# Altium integrated library Res-SMD_V2.IntLib: 2369 symbols (part 15 of 18)
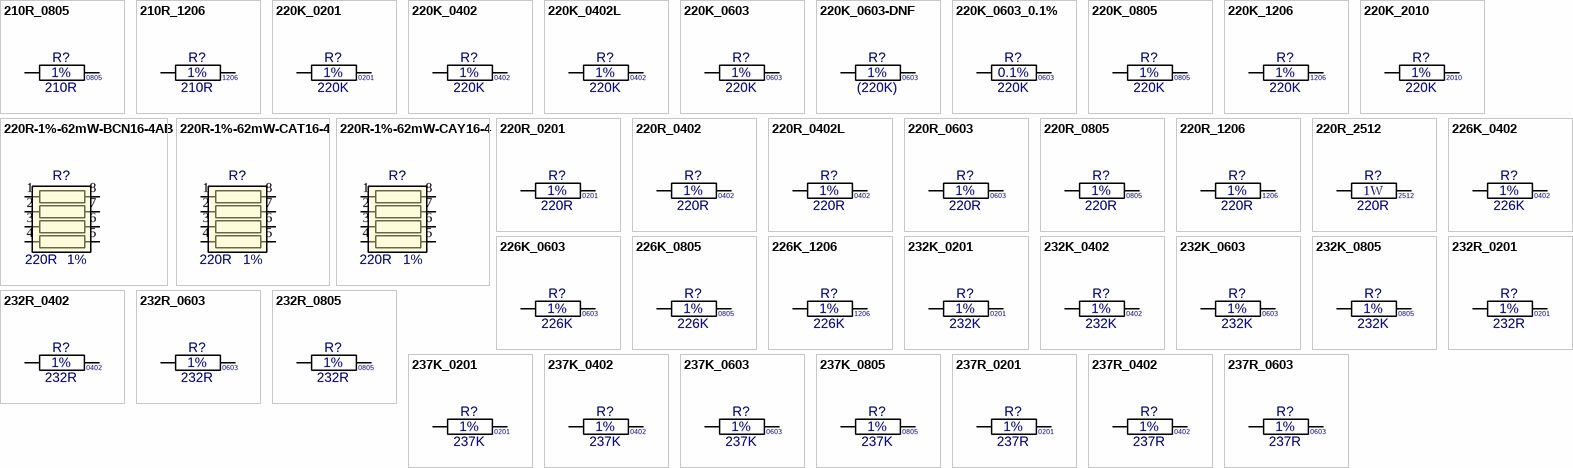
[diagram p73: symbols 210R_0805 to 237R_0603]

## 237K_0201
designator R?, comment value 237K  Tol: 1%  Text1: 0201  (hidden comment: 237K_R0201_1%)
Resistor Chip SMD; Manufacturer: Various; Part Number: 237K 0201 1%; Watt: 31mW; Package: RESC0201X33N; EDM-PN: *; Text2: *; Reutech PN: *; SAAB PN: *; DCE Part No: *
footprint RESC0201X33N (Chip Resistor, 0201, 2-Leads, Body 0.6x0.3mm, IPC Medium Density)
pins: 1, 2

## 237K_0402
designator R?, comment value 237K  Tol: 1%  Text1: 0402  (hidden comment: 237K_R0402_1%)
Resistor Chip SMD; Manufacturer: Various; Part Number: 237K 0402 1%; Watt: 63mW; Package: RESC0402X40N; EDM-PN: *; Text2: *; Reutech PN: *; SAAB PN: *; DCE Part No: *
footprint RESC0402X40N (Chip Resistor, 0402, 2-Leads, Body 1.1x0.5mm, IPC Medium Density)
pins: 1, 2

## 237K_0603
designator R?, comment value 237K  Tol: 1%  Text1: 0603  (hidden comment: 237K_R0603_1%)
Resistor Chip SMD; Manufacturer: Various; Part Number: 237K 0603 1%; Watt: 100mW; Package: RESC0603X60N; EDM-PN: *; Text2: *; Reutech PN: *; SAAB PN: *; DCE Part No: *
footprint RESC0603X60N (Chip Resistor, 0603, 2-Leads, Body 1.6x0.8mm, IPC Medium Density)
pins: 1, 2

## 237K_0805
designator R?, comment value 237K  Tol: 1%  Text1: 0805  (hidden comment: 237K_R0805_1%)
Resistor Chip SMD; Manufacturer: Various; Part Number: 237K 0805 1%; Watt: 125mW; Package: RESC0805X65N; EDM-PN: *; Text2: *; Reutech PN: *; SAAB PN: *; DCE Part No: *
footprint RESC0805X65N (Chip Resistor, 0805, 2-Leads, Body 2.0x1.3mm, IPC Medium Density)
pins: 1, 2

## 237R_0201
designator R?, comment value 237R  Tol: 1%  Text1: 0201  (hidden comment: 237R_R0201_1%)
Resistor Chip SMD; Manufacturer: Various; Part Number: 237R 0201 1%; Watt: 31mW; Package: RESC0201X33N; EDM-PN: *; Text2: *; Reutech PN: *; SAAB PN: *; DCE Part No: *
footprint RESC0201X33N (Chip Resistor, 0201, 2-Leads, Body 0.6x0.3mm, IPC Medium Density)
pins: 1, 2

## 237R_0402
designator R?, comment value 237R  Tol: 1%  Text1: 0402  (hidden comment: 237R_R0402_1%)
Resistor Chip SMD; Manufacturer: Various; Part Number: 237R 0402 1%; Watt: 63mW; Package: RESC0402X40N; EDM-PN: *; Text2: *; Reutech PN: *; SAAB PN: *; DCE Part No: *
footprint RESC0402X40N (Chip Resistor, 0402, 2-Leads, Body 1.1x0.5mm, IPC Medium Density)
pins: 1, 2

## 237R_0603
designator R?, comment value 237R  Tol: 1%  Text1: 0603  (hidden comment: 237R_R0603_1%)
Resistor Chip SMD; Manufacturer: Various; Part Number: 237R 0603 1%; Watt: 100mW; Package: RESC0603X60N; EDM-PN: *; Text2: *; Reutech PN: *; SAAB PN: *; DCE Part No: *
footprint RESC0603X60N (Chip Resistor, 0603, 2-Leads, Body 1.6x0.8mm, IPC Medium Density)
pins: 1, 2

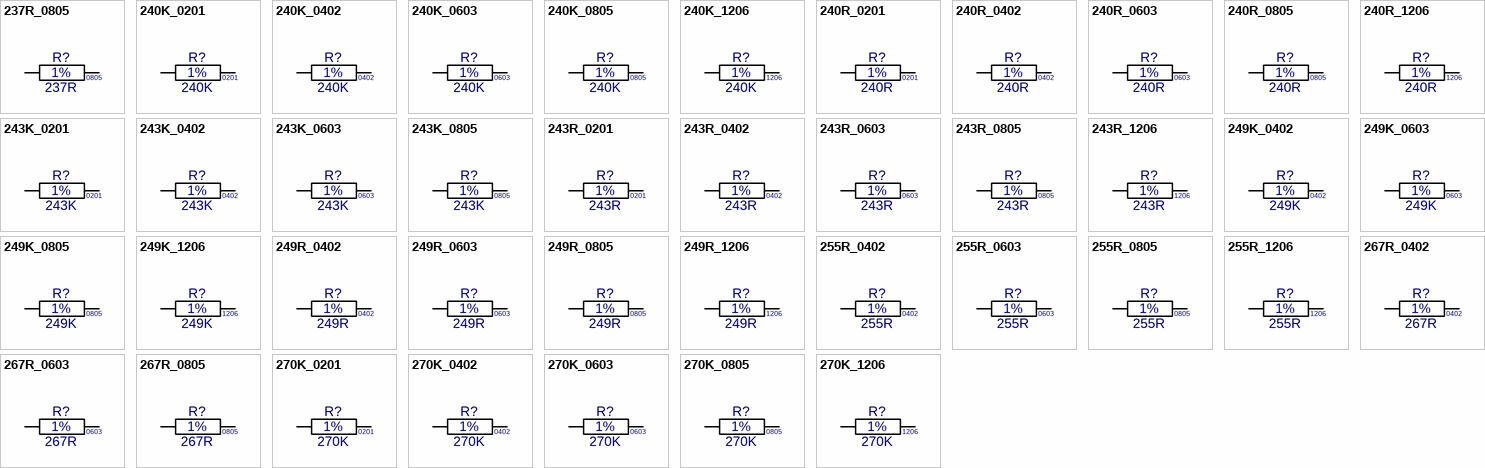
[diagram p47: symbols 237R_0805 to 270K_1206]

## 237R_0805
designator R?, comment value 237R  Tol: 1%  Text1: 0805  (hidden comment: 237R_R0805_1%)
Resistor Chip SMD; Manufacturer: Various; Part Number: 237R 0805 1%; Watt: 125mW; Package: RESC0805X65N; EDM-PN: *; Text2: *; Reutech PN: *; SAAB PN: *; DCE Part No: *
footprint RESC0805X65N (Chip Resistor, 0805, 2-Leads, Body 2.0x1.3mm, IPC Medium Density)
pins: 1, 2

## 240K_0201
designator R?, comment value 240K  Tol: 1%  Text1: 0201  (hidden comment: 240K_R0201_1%)
Resistor Chip SMD; Manufacturer: Various; Part Number: 240K 0201 1%; Watt: 31mW; Package: RESC0201X33N; EDM-PN: *; Text2: *; Reutech PN: *; SAAB PN: *; DCE Part No: *
footprint RESC0201X33N (Chip Resistor, 0201, 2-Leads, Body 0.6x0.3mm, IPC Medium Density)
pins: 1, 2

## 240K_0402
designator R?, comment value 240K  Tol: 1%  Text1: 0402  (hidden comment: 240K_R0402_1%)
Resistor Chip SMD; Manufacturer: Various; Part Number: 240K 0402 1%; Watt: 63mW; Package: RESC0402X40N; EDM-PN: *; Text2: *; Reutech PN: *; SAAB PN: *; DCE Part No: *
footprint RESC0402X40N (Chip Resistor, 0402, 2-Leads, Body 1.1x0.5mm, IPC Medium Density)
pins: 1, 2

## 240K_0603
designator R?, comment value 240K  Tol: 1%  Text1: 0603  (hidden comment: 240K_R0603_1%)
Resistor Chip SMD; Manufacturer: Various; Part Number: 240K 0603 1%; Watt: 100mW; Package: RESC0603X60N; EDM-PN: *; Text2: *; Reutech PN: *; SAAB PN: *; DCE Part No: *
footprint RESC0603X60N (Chip Resistor, 0603, 2-Leads, Body 1.6x0.8mm, IPC Medium Density)
pins: 1, 2

## 240K_0805
designator R?, comment value 240K  Tol: 1%  Text1: 0805  (hidden comment: 240K_R0805_1%)
Resistor Chip SMD; Manufacturer: Various; Part Number: 240K 0805 1%; Watt: 125mW; Package: RESC0805X65N; EDM-PN: *; Text2: *; Reutech PN: *; SAAB PN: *; DCE Part No: *
footprint RESC0805X65N (Chip Resistor, 0805, 2-Leads, Body 2.0x1.3mm, IPC Medium Density)
pins: 1, 2

## 240K_1206
designator R?, comment value 240K  Tol: 1%  Text1: 1206  (hidden comment: 240K_R1206_1%)
Resistor Chip SMD; Manufacturer: Various; Part Number: 240K 1206 1%; Watt: 250mW; Package: RESC1206X71N; EDM-PN: *; Text2: *; Reutech PN: *; SAAB PN: *; DCE Part No: *
footprint RESC1206X71N (Chip Resistor, 1206, 2-Leads, Body 3.2x1.6mm, IPC Medium Density)
pins: 1, 2

## 240R_0201
designator R?, comment value 240R  Tol: 1%  Text1: 0201  (hidden comment: 240R_R0201_1%)
Resistor Chip SMD; Manufacturer: Various; Part Number: 240R 0201 1%; Watt: 31mW; Package: RESC0201X33N; EDM-PN: *; Text2: *; Reutech PN: *; SAAB PN: *; DCE Part No: *
footprint RESC0201X33N (Chip Resistor, 0201, 2-Leads, Body 0.6x0.3mm, IPC Medium Density)
pins: 1, 2

## 240R_0402
designator R?, comment value 240R  Tol: 1%  Text1: 0402  (hidden comment: 240R_R0402_1%)
Resistor Chip SMD; Manufacturer: Various; Part Number: 240R 0402 1%; Watt: 63mW; Package: RESC0402X40N; EDM-PN: *; Text2: *; Reutech PN: *; SAAB PN: *; DCE Part No: *
footprint RESC0402X40N (Chip Resistor, 0402, 2-Leads, Body 1.1x0.5mm, IPC Medium Density)
pins: 1, 2

## 240R_0603
designator R?, comment value 240R  Tol: 1%  Text1: 0603  (hidden comment: 240R_R0603_1%)
Resistor Chip SMD; Manufacturer: Various; Part Number: 240R 0603 1%; Watt: 100mW; Package: RESC0603X60N; EDM-PN: *; Text2: *; Reutech PN: 5905-93-2400; SAAB PN: *; DCE Part No: *
footprint RESC0603X60N (Chip Resistor, 0603, 2-Leads, Body 1.6x0.8mm, IPC Medium Density)
pins: 1, 2

## 240R_0805
designator R?, comment value 240R  Tol: 1%  Text1: 0805  (hidden comment: 240R_R0805_1%)
Resistor Chip SMD; Manufacturer: Various; Part Number: 240R 0805 1%; Watt: 125mW; Package: RESC0805X65N; EDM-PN: *; Text2: *; Reutech PN: *; SAAB PN: *; DCE Part No: *
footprint RESC0805X65N (Chip Resistor, 0805, 2-Leads, Body 2.0x1.3mm, IPC Medium Density)
pins: 1, 2

## 240R_1206
designator R?, comment value 240R  Tol: 1%  Text1: 1206  (hidden comment: 240R_R1206_1%)
Resistor Chip SMD; Manufacturer: Various; Part Number: 240R 1206 1%; Watt: 250mW; Package: RESC1206X71N; EDM-PN: *; Text2: *; Reutech PN: 5905-97-2400; SAAB PN: *; DCE Part No: *
footprint RESC1206X71N (Chip Resistor, 1206, 2-Leads, Body 3.2x1.6mm, IPC Medium Density)
pins: 1, 2

## 243K_0201
designator R?, comment value 243K  Tol: 1%  Text1: 0201  (hidden comment: 243K_R0201_1%)
Resistor Chip SMD; Manufacturer: Various; Part Number: 243K 0201 1%; Watt: 31mW; Package: RESC0201X33N; EDM-PN: *; Text2: *; Reutech PN: *; SAAB PN: *; DCE Part No: *
footprint RESC0201X33N (Chip Resistor, 0201, 2-Leads, Body 0.6x0.3mm, IPC Medium Density)
pins: 1, 2

## 243K_0402
designator R?, comment value 243K  Tol: 1%  Text1: 0402  (hidden comment: 243K_R0402_1%)
Resistor Chip SMD; Manufacturer: Various; Part Number: 243K 0402 1%; Watt: 63mW; Package: RESC0402X40N; EDM-PN: *; Text2: *; Reutech PN: *; SAAB PN: *; DCE Part No: *
footprint RESC0402X40N (Chip Resistor, 0402, 2-Leads, Body 1.1x0.5mm, IPC Medium Density)
pins: 1, 2

## 243K_0603
designator R?, comment value 243K  Tol: 1%  Text1: 0603  (hidden comment: 243K_R0603_1%)
Resistor Chip SMD; Manufacturer: Various; Part Number: 243K 0603 1%; Watt: 100mW; Package: RESC0603X60N; EDM-PN: *; Text2: *; Reutech PN: *; SAAB PN: *; DCE Part No: *
footprint RESC0603X60N (Chip Resistor, 0603, 2-Leads, Body 1.6x0.8mm, IPC Medium Density)
pins: 1, 2

## 243K_0805
designator R?, comment value 243K  Tol: 1%  Text1: 0805  (hidden comment: 243K_R0805_1%)
Resistor Chip SMD; Manufacturer: Various; Part Number: 243K 0805 1%; Watt: 125mW; Package: RESC0805X65N; EDM-PN: *; Text2: *; Reutech PN: *; SAAB PN: *; DCE Part No: *
footprint RESC0805X65N (Chip Resistor, 0805, 2-Leads, Body 2.0x1.3mm, IPC Medium Density)
pins: 1, 2

## 243R_0201
designator R?, comment value 243R  Tol: 1%  Text1: 0201  (hidden comment: 243R_R0201_1%)
Resistor Chip SMD; Manufacturer: Various; Part Number: 243R 0201 1%; Watt: 31mW; Package: RESC0201X33N; EDM-PN: *; Text2: *; Reutech PN: *; SAAB PN: *; DCE Part No: *
footprint RESC0201X33N (Chip Resistor, 0201, 2-Leads, Body 0.6x0.3mm, IPC Medium Density)
pins: 1, 2

## 243R_0402
designator R?, comment value 243R  Tol: 1%  Text1: 0402  (hidden comment: 243R_R0402_1%)
Resistor Chip SMD; Manufacturer: Various; Part Number: 243R 0402 1%; Watt: 63mW; Package: RESC0402X40N; EDM-PN: *; Text2: *; Reutech PN: *; SAAB PN: *; DCE Part No: *
footprint RESC0402X40N (Chip Resistor, 0402, 2-Leads, Body 1.1x0.5mm, IPC Medium Density)
pins: 1, 2

## 243R_0603
designator R?, comment value 243R  Tol: 1%  Text1: 0603  (hidden comment: 243R_R0603_1%)
Resistor Chip SMD; Manufacturer: Various; Part Number: 243R 0603 1%; Watt: 100mW; Package: RESC0603X60N; EDM-PN: *; Text2: *; Reutech PN: 5905-93-2430; SAAB PN: *; DCE Part No: *
footprint RESC0603X60N (Chip Resistor, 0603, 2-Leads, Body 1.6x0.8mm, IPC Medium Density)
pins: 1, 2

## 243R_0805
designator R?, comment value 243R  Tol: 1%  Text1: 0805  (hidden comment: 243R_R0805_1%)
Resistor Chip SMD; Manufacturer: Various; Part Number: 243R 0805 1%; Watt: 125mW; Package: RESC0805X65N; EDM-PN: *; Text2: *; Reutech PN: *; SAAB PN: *; DCE Part No: *
footprint RESC0805X65N (Chip Resistor, 0805, 2-Leads, Body 2.0x1.3mm, IPC Medium Density)
pins: 1, 2

## 243R_1206
designator R?, comment value 243R  Tol: 1%  Text1: 1206  (hidden comment: 243R_R1206_1%)
Resistor Chip SMD; Manufacturer: Various; Part Number: 243R 1206 1%; Watt: 250mW; Package: RESC1206X71N; EDM-PN: *; Text2: *; Reutech PN: 5905-97-2430; SAAB PN: *; DCE Part No: *
footprint RESC1206X71N (Chip Resistor, 1206, 2-Leads, Body 3.2x1.6mm, IPC Medium Density)
pins: 1, 2

## 249K_0402
designator R?, comment value 249K  Tol: 1%  Text1: 0402  (hidden comment: 249K_R0402_1%)
Resistor Chip SMD; Manufacturer: Various; Part Number: 249K 0402 1%; Watt: 63mW; Package: RESC0402X40N; EDM-PN: *; Text2: *; Reutech PN: *; SAAB PN: *; DCE Part No: *
footprint RESC0402X40N (Chip Resistor, 0402, 2-Leads, Body 1.1x0.5mm, IPC Medium Density)
pins: 1, 2

## 249K_0603
designator R?, comment value 249K  Tol: 1%  Text1: 0603  (hidden comment: 249K_R0603_1%)
Resistor Chip SMD; Manufacturer: Various; Part Number: 249K 0603 1%; Watt: 100mW; Package: RESC0603X60N; EDM-PN: *; Text2: *; Reutech PN: *; SAAB PN: *; DCE Part No: *
footprint RESC0603X60N (Chip Resistor, 0603, 2-Leads, Body 1.6x0.8mm, IPC Medium Density)
pins: 1, 2

## 249K_0805
designator R?, comment value 249K  Tol: 1%  Text1: 0805  (hidden comment: 249K_R0805_1%)
Resistor Chip SMD; Manufacturer: Various; Part Number: 249K 0805 1%; Watt: 125mW; Package: RESC0805X65N; EDM-PN: *; Text2: *; Reutech PN: *; SAAB PN: *; DCE Part No: *
footprint RESC0805X65N (Chip Resistor, 0805, 2-Leads, Body 2.0x1.3mm, IPC Medium Density)
pins: 1, 2

## 249K_1206
designator R?, comment value 249K  Tol: 1%  Text1: 1206  (hidden comment: 249K_R1206_1%)
Resistor Chip SMD; Manufacturer: Various; Part Number: 249K 1206 1%; Watt: 250mW; Package: RESC1206X71N; EDM-PN: *; Text2: *; Reutech PN: *; SAAB PN: *; DCE Part No: *
footprint RESC1206X71N (Chip Resistor, 1206, 2-Leads, Body 3.2x1.6mm, IPC Medium Density)
pins: 1, 2

## 249R_0402
designator R?, comment value 249R  Tol: 1%  Text1: 0402  (hidden comment: 249R_R0402_1%)
Resistor Chip SMD; Manufacturer: Various; Part Number: 249R 0402 1%; Watt: 63mW; Package: RESC0402X40N; EDM-PN: *; Text2: *; Reutech PN: *; SAAB PN: *; DCE Part No: *
footprint RESC0402X40N (Chip Resistor, 0402, 2-Leads, Body 1.1x0.5mm, IPC Medium Density)
pins: 1, 2

## 249R_0603
designator R?, comment value 249R  Tol: 1%  Text1: 0603  (hidden comment: 249R_R0603_1%)
Resistor Chip SMD; Manufacturer: Various; Part Number: 249R 0603 1%; Watt: 100mW; EDM-PN: RES1028; Package: RESC0603X60N; Text2: *; Reutech PN: *; SAAB PN: *; DCE Part No: *
footprint RESC0603X60N (Chip Resistor, 0603, 2-Leads, Body 1.6x0.8mm, IPC Medium Density)
pins: 1, 2

## 249R_0805
designator R?, comment value 249R  Tol: 1%  Text1: 0805  (hidden comment: 249R_R0805_1%)
Resistor Chip SMD; Manufacturer: Various; Part Number: 249R 0805 1%; Watt: 125mW; Package: RESC0805X65N; EDM-PN: *; Text2: *; Reutech PN: *; SAAB PN: *; DCE Part No: *
footprint RESC0805X65N (Chip Resistor, 0805, 2-Leads, Body 2.0x1.3mm, IPC Medium Density)
pins: 1, 2

## 249R_1206
designator R?, comment value 249R  Tol: 1%  Text1: 1206  (hidden comment: 249R_R1206_1%)
Resistor Chip SMD; Manufacturer: Various; Part Number: 249R 1206 1%; Watt: 250mW; Package: RESC1206X71N; EDM-PN: *; Text2: *; Reutech PN: *; SAAB PN: *; DCE Part No: *
footprint RESC1206X71N (Chip Resistor, 1206, 2-Leads, Body 3.2x1.6mm, IPC Medium Density)
pins: 1, 2

## 255R_0402
designator R?, comment value 255R  Tol: 1%  Text1: 0402  (hidden comment: 255R_R0402_1%)
Resistor Chip SMD; Manufacturer: Various; Part Number: 255R 0402 1%; Watt: 63mW; Package: RESC0402X40N; EDM-PN: *; Text2: *; Reutech PN: *; SAAB PN: *; DCE Part No: *
footprint RESC0402X40N (Chip Resistor, 0402, 2-Leads, Body 1.1x0.5mm, IPC Medium Density)
pins: 1, 2

## 255R_0603
designator R?, comment value 255R  Tol: 1%  Text1: 0603  (hidden comment: 255R_R0603_1%)
Resistor Chip SMD; Manufacturer: Various; Part Number: 255R 0603 1%; Watt: 100mW; Package: RESC0603X60N; EDM-PN: *; Text2: *; Reutech PN: *; SAAB PN: *; DCE Part No: *
footprint RESC0603X60N (Chip Resistor, 0603, 2-Leads, Body 1.6x0.8mm, IPC Medium Density)
pins: 1, 2

## 255R_0805
designator R?, comment value 255R  Tol: 1%  Text1: 0805  (hidden comment: 255R_R0805_1%)
Resistor Chip SMD; Manufacturer: Various; Part Number: 255R 0805 1%; Watt: 125mW; Package: RESC0805X65N; EDM-PN: *; Text2: *; Reutech PN: *; SAAB PN: *; DCE Part No: *
footprint RESC0805X65N (Chip Resistor, 0805, 2-Leads, Body 2.0x1.3mm, IPC Medium Density)
pins: 1, 2

## 255R_1206
designator R?, comment value 255R  Tol: 1%  Text1: 1206  (hidden comment: 255R_R1206_1%)
Resistor Chip SMD; Manufacturer: Various; Part Number: 255R 1206 1%; Watt: 250mW; Package: RESC1206X71N; EDM-PN: *; Text2: *; Reutech PN: *; SAAB PN: *; DCE Part No: *
footprint RESC1206X71N (Chip Resistor, 1206, 2-Leads, Body 3.2x1.6mm, IPC Medium Density)
pins: 1, 2

## 267R_0402
designator R?, comment value 267R  Tol: 1%  Text1: 0402  (hidden comment: 267R_R0402_1%)
Resistor Chip SMD; Manufacturer: Various; Part Number: 267R 0402 1%; Watt: 63mW; Package: RESC0402X40N; EDM-PN: *; Text2: *; Reutech PN: *; SAAB PN: *; DCE Part No: *
footprint RESC0402X40N (Chip Resistor, 0402, 2-Leads, Body 1.1x0.5mm, IPC Medium Density)
pins: 1, 2

## 267R_0603
designator R?, comment value 267R  Tol: 1%  Text1: 0603  (hidden comment: 267R_R0603_1%)
Resistor Chip SMD; Manufacturer: Various; Part Number: 267R 0603 1%; Watt: 100mW; Package: RESC0603X60N; EDM-PN: *; Text2: *; Reutech PN: *; SAAB PN: *; DCE Part No: *
footprint RESC0603X60N (Chip Resistor, 0603, 2-Leads, Body 1.6x0.8mm, IPC Medium Density)
pins: 1, 2

## 267R_0805
designator R?, comment value 267R  Tol: 1%  Text1: 0805  (hidden comment: 267R_R0805_1%)
Resistor Chip SMD; Manufacturer: Various; Part Number: 267R 0805 1%; Watt: 125mW; Package: RESC0805X65N; EDM-PN: *; Text2: *; Reutech PN: *; SAAB PN: *; DCE Part No: *
footprint RESC0805X65N (Chip Resistor, 0805, 2-Leads, Body 2.0x1.3mm, IPC Medium Density)
pins: 1, 2

## 270K_0201
designator R?, comment value 270K  Tol: 1%  Text1: 0201  (hidden comment: 270K_R0201_1%)
Resistor Chip SMD; Manufacturer: Various; Part Number: 270K 0201 1%; Watt: 31mW; Package: RESC0201X33N; EDM-PN: *; Text2: *; Reutech PN: *; SAAB PN: *; DCE Part No: *
footprint RESC0201X33N (Chip Resistor, 0201, 2-Leads, Body 0.6x0.3mm, IPC Medium Density)
pins: 1, 2

## 270K_0402
designator R?, comment value 270K  Tol: 1%  Text1: 0402  (hidden comment: 270K_R0402_1%)
Resistor Chip SMD; Manufacturer: Various; Part Number: 270K 0402 1%; Watt: 63mW; Package: RESC0402X40N; EDM-PN: *; Text2: *; Reutech PN: *; SAAB PN: *; DCE Part No: *
footprint RESC0402X40N (Chip Resistor, 0402, 2-Leads, Body 1.1x0.5mm, IPC Medium Density)
pins: 1, 2

## 270K_0603
designator R?, comment value 270K  Tol: 1%  Text1: 0603  (hidden comment: 270K_R0603_1%)
Resistor Chip SMD; Manufacturer: Various; Part Number: 270K 0603 1%; Watt: 100mW; Package: RESC0603X60N; EDM-PN: *; Text2: *; Reutech PN: *; SAAB PN: *; DCE Part No: *
footprint RESC0603X60N (Chip Resistor, 0603, 2-Leads, Body 1.6x0.8mm, IPC Medium Density)
pins: 1, 2

## 270K_0805
designator R?, comment value 270K  Tol: 1%  Text1: 0805  (hidden comment: 270K_R0805_1%)
Resistor Chip SMD; Manufacturer: Various; Part Number: 270K 0805 1%; Watt: 125mW; Package: RESC0805X65N; EDM-PN: *; Text2: *; Reutech PN: *; SAAB PN: *; DCE Part No: *
footprint RESC0805X65N (Chip Resistor, 0805, 2-Leads, Body 2.0x1.3mm, IPC Medium Density)
pins: 1, 2

## 270K_1206
designator R?, comment value 270K  Tol: 1%  Text1: 1206  (hidden comment: 270K_R1206_1%)
Resistor Chip SMD; Manufacturer: Various; Part Number: 270K 1206 1%; Watt: 250mW; Package: RESC1206X71N; EDM-PN: *; Text2: *; Reutech PN: *; SAAB PN: *; DCE Part No: *
footprint RESC1206X71N (Chip Resistor, 1206, 2-Leads, Body 3.2x1.6mm, IPC Medium Density)
pins: 1, 2

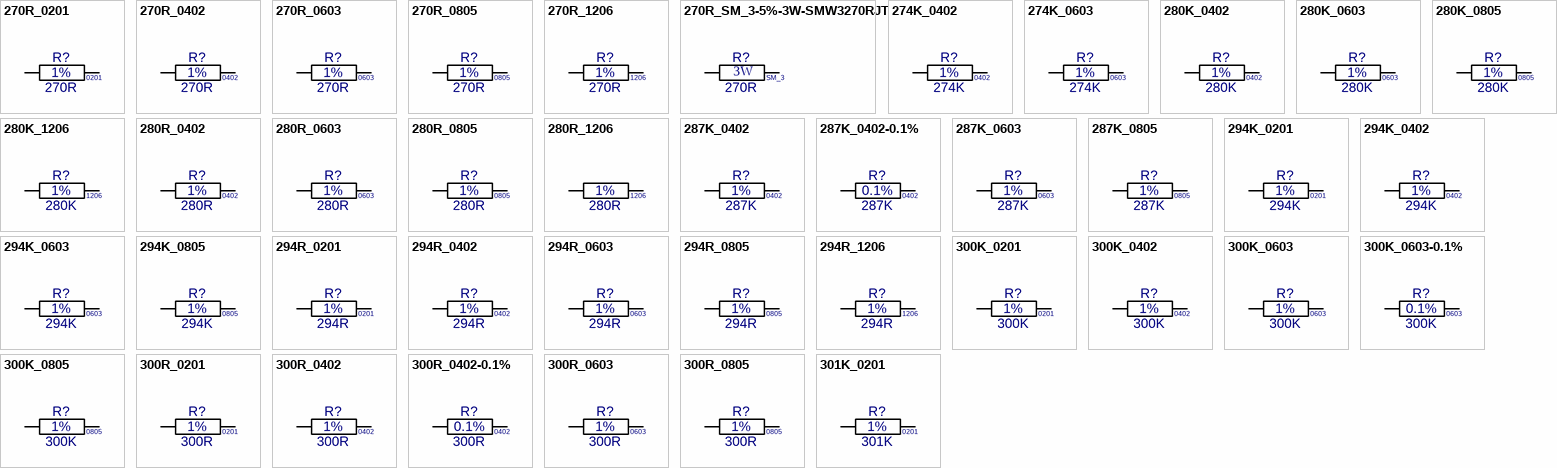
[diagram p48: symbols 270R_0201 to 301K_0201]

## 270R_0201
designator R?, comment value 270R  Tol: 1%  Text1: 0201  (hidden comment: 270R_R0201_1%)
Resistor Chip SMD; Manufacturer: Various; Part Number: 270R 0201 1%; Watt: 31mW; Package: RESC0201X33N; EDM-PN: *; Text2: *; Reutech PN: *; SAAB PN: *; DCE Part No: *
footprint RESC0201X33N (Chip Resistor, 0201, 2-Leads, Body 0.6x0.3mm, IPC Medium Density)
pins: 1, 2

## 270R_0402
designator R?, comment value 270R  Tol: 1%  Text1: 0402  (hidden comment: 270R_R0402_1%)
Resistor Chip SMD; Manufacturer: Various; Part Number: 270R 0402 1%; Watt: 63mW; Package: RESC0402X40N; EDM-PN: *; Text2: *; Reutech PN: *; SAAB PN: *; DCE Part No: *
footprint RESC0402X40N (Chip Resistor, 0402, 2-Leads, Body 1.1x0.5mm, IPC Medium Density)
pins: 1, 2

## 270R_0603
designator R?, comment value 270R  Tol: 1%  Text1: 0603  (hidden comment: 270R_R0603_1%)
Resistor Chip SMD; Manufacturer: Various; Part Number: 270R 0603 1%; Watt: 100mW; EDM-PN: RES231; Package: RESC0603X60N; Text2: *; Reutech PN: 5905-93-2700; SAAB PN: *; DCE Part No: *
footprint RESC0603X60N (Chip Resistor, 0603, 2-Leads, Body 1.6x0.8mm, IPC Medium Density)
pins: 1, 2

## 270R_0805
designator R?, comment value 270R  Tol: 1%  Text1: 0805  (hidden comment: 270R_R0805_1%)
Resistor Chip SMD; Manufacturer: Various; Part Number: 270R 0805 1%; Watt: 125mW; Package: RESC0805X65N; EDM-PN: *; Text2: *; Reutech PN: *; SAAB PN: *; DCE Part No: *
footprint RESC0805X65N (Chip Resistor, 0805, 2-Leads, Body 2.0x1.3mm, IPC Medium Density)
pins: 1, 2

## 270R_1206
designator R?, comment value 270R  Tol: 1%  Text1: 1206  (hidden comment: 270R_R1206_1%)
Resistor Chip SMD; Manufacturer: Various; Part Number: 270R 1206 1%; Watt: 250mW; Package: RESC1206X71N; EDM-PN: *; Text2: *; Reutech PN: *; SAAB PN: *; DCE Part No: *
footprint RESC1206X71N (Chip Resistor, 1206, 2-Leads, Body 3.2x1.6mm, IPC Medium Density)
pins: 1, 2

## 270R_SM_3-5%-3W-SMW3270RJT
designator R?, comment value 270R  Watt: 3W  Text1: SM_3  (hidden comment: SMW3270RJT)
Resistor Wirewound Flame Retardant Safety; Manufacturer: TE Connectivity; Tol: 5%; Part Number: SMW3270RJT; Package: RES-SM_3; EDM-PN: *; Text2: *; Reutech PN: *; SAAB PN: *; DCE Part No: *
footprint RES-SM_3 (RES-SM_3 10.5x5.5mm)
pins: 1, 2

## 274K_0402
designator R?, comment value 274K  Tol: 1%  Text1: 0402  (hidden comment: 274K_R0402_1%)
Resistor Chip SMD; Manufacturer: Various; Part Number: 274K 0402 1%; Watt: 63mW; Package: RESC0402X40N; EDM-PN: *; Text2: *; Reutech PN: *; SAAB PN: *; DCE Part No: *
footprint RESC0402X40N (Chip Resistor, 0402, 2-Leads, Body 1.1x0.5mm, IPC Medium Density)
pins: 1, 2

## 274K_0603
designator R?, comment value 274K  Tol: 1%  Text1: 0603  (hidden comment: 274K_R0603_1%)
Resistor Chip SMD; Manufacturer: Various; Part Number: 274K 0603 1%; Watt: 100mW; Package: RESC0603X60N; EDM-PN: *; Text2: *; Reutech PN: *; SAAB PN: *; DCE Part No: *
footprint RESC0603X60N (Chip Resistor, 0603, 2-Leads, Body 1.6x0.8mm, IPC Medium Density)
pins: 1, 2

## 280K_0402
designator R?, comment value 280K  Tol: 1%  Text1: 0402  (hidden comment: 280K_R0402_1%)
Resistor Chip SMD; Manufacturer: Various; Part Number: 280K 0402 1%; Watt: 63mW; Package: RESC0402X40N; EDM-PN: *; Text2: *; Reutech PN: *; SAAB PN: *; DCE Part No: *
footprint RESC0402X40N (Chip Resistor, 0402, 2-Leads, Body 1.1x0.5mm, IPC Medium Density)
pins: 1, 2

## 280K_0603
designator R?, comment value 280K  Tol: 1%  Text1: 0603  (hidden comment: 280K_R0603_1%)
Resistor Chip SMD; Manufacturer: Various; Part Number: 280K 0603 1%; Watt: 100mW; Package: RESC0603X60N; EDM-PN: *; Text2: *; Reutech PN: *; SAAB PN: *; DCE Part No: *
footprint RESC0603X60N (Chip Resistor, 0603, 2-Leads, Body 1.6x0.8mm, IPC Medium Density)
pins: 1, 2

## 280K_0805
designator R?, comment value 280K  Tol: 1%  Text1: 0805  (hidden comment: 280K_R0805_1%)
Resistor Chip SMD; Manufacturer: Various; Part Number: 280K 0805 1%; Watt: 125mW; Package: RESC0805X65N; EDM-PN: *; Text2: *; Reutech PN: *; SAAB PN: *; DCE Part No: *
footprint RESC0805X65N (Chip Resistor, 0805, 2-Leads, Body 2.0x1.3mm, IPC Medium Density)
pins: 1, 2

## 280K_1206
designator R?, comment value 280K  Tol: 1%  Text1: 1206  (hidden comment: 280K_R1206_1%)
Resistor Chip SMD; Manufacturer: Various; Part Number: 280K 1206 1%; Watt: 250mW; Package: RESC1206X71N; EDM-PN: *; Text2: *; Reutech PN: *; SAAB PN: *; DCE Part No: *
footprint RESC1206X71N (Chip Resistor, 1206, 2-Leads, Body 3.2x1.6mm, IPC Medium Density)
pins: 1, 2

## 280R_0402
designator R?, comment value 280R  Tol: 1%  Text1: 0402  (hidden comment: 280R_R0402_1%)
Resistor Chip SMD; Manufacturer: Various; Part Number: 280R 0402 1%; Watt: 63mW; Package: RESC0402X40N; EDM-PN: *; Text2: *; Reutech PN: *; SAAB PN: *; DCE Part No: *
footprint RESC0402X40N (Chip Resistor, 0402, 2-Leads, Body 1.1x0.5mm, IPC Medium Density)
pins: 1, 2

## 280R_0603
designator R?, comment value 280R  Tol: 1%  Text1: 0603  (hidden comment: 280R_R0603_1%)
Resistor Chip SMD; Manufacturer: Various; Part Number: 280R 0603 1%; Watt: 100mW; Package: RESC0603X60N; EDM-PN: *; Text2: *; Reutech PN: *; SAAB PN: *; DCE Part No: *
footprint RESC0603X60N (Chip Resistor, 0603, 2-Leads, Body 1.6x0.8mm, IPC Medium Density)
pins: 1, 2

## 280R_0805
designator R?, comment value 280R  Tol: 1%  Text1: 0805  (hidden comment: 280R_R0805_1%)
Resistor Chip SMD; Manufacturer: Various; Part Number: 280R 0805 1%; Watt: 125mW; Package: RESC0805X65N; EDM-PN: *; Text2: *; Reutech PN: *; SAAB PN: *; DCE Part No: *
footprint RESC0805X65N (Chip Resistor, 0805, 2-Leads, Body 2.0x1.3mm, IPC Medium Density)
pins: 1, 2

## 280R_1206
designator ?, comment value 280R  Tol: 1%  Text1: 1206  (hidden comment: 280R_R1206_1%)
Resistor Chip SMD; Manufacturer: Various; Part Number: 280R 1206 1%; Watt: 250mW; Package: RESC1206X71N; EDM-PN: *; Text2: *; Reutech PN: *; SAAB PN: *; DCE Part No: *
footprint RESC1206X71N (Chip Resistor, 1206, 2-Leads, Body 3.2x1.6mm, IPC Medium Density)
pins: 1, 2

## 287K_0402
designator R?, comment value 287K  Tol: 1%  Text1: 0402  (hidden comment: 287K_R0402_1%)
Resistor Chip SMD; Manufacturer: Various; Part Number: 287K 0402 1%; Watt: 63mW; Package: RESC0402X40N; EDM-PN: *; Text2: *; Reutech PN: *; SAAB PN: *; DCE Part No: *
footprint RESC0402X40N (Chip Resistor, 0402, 2-Leads, Body 1.1x0.5mm, IPC Medium Density)
pins: 1, 2

## 287K_0402-0.1%
designator R?, comment value 287K  Tol: 0.1%  Text1: 0402  (hidden comment: 287K_R0402_0.1%)
Resistor Chip SMD; Manufacturer: Various; Part Number: 287K 0402 0.1%; Watt: 63mW; Package: RESC0402X40N; EDM-PN: *; Text2: *; Reutech PN: *; SAAB PN: *; DCE Part No: *
footprint RESC0402X40N (Chip Resistor, 0402, 2-Leads, Body 1.1x0.5mm, IPC Medium Density)
pins: 1, 2

## 287K_0603
designator R?, comment value 287K  Tol: 1%  Text1: 0603  (hidden comment: 287K_R0603_1%)
Resistor Chip SMD; Manufacturer: Various; Part Number: 287K 0603 1%; Watt: 100mW; Package: RESC0603X60N; EDM-PN: *; Text2: *; Reutech PN: *; SAAB PN: *; DCE Part No: *
footprint RESC0603X60N (Chip Resistor, 0603, 2-Leads, Body 1.6x0.8mm, IPC Medium Density)
pins: 1, 2

## 287K_0805
designator R?, comment value 287K  Tol: 1%  Text1: 0805  (hidden comment: 287K_R0805_1%)
Resistor Chip SMD; Manufacturer: Various; Part Number: 287K 0805 1%; Watt: 125mW; Package: RESC0805X65N; EDM-PN: *; Text2: *; Reutech PN: *; SAAB PN: *; DCE Part No: *
footprint RESC0805X65N (Chip Resistor, 0805, 2-Leads, Body 2.0x1.3mm, IPC Medium Density)
pins: 1, 2

## 294K_0201
designator R?, comment value 294K  Tol: 1%  Text1: 0201  (hidden comment: 294K_R0201_1%)
Resistor Chip SMD; Manufacturer: Various; Part Number: 294K 0201 1%; Watt: 31mW; Package: RESC0201X33N; EDM-PN: *; Text2: *; Reutech PN: *; SAAB PN: *; DCE Part No: *
footprint RESC0201X33N (Chip Resistor, 0201, 2-Leads, Body 0.6x0.3mm, IPC Medium Density)
pins: 1, 2

## 294K_0402
designator R?, comment value 294K  Tol: 1%  Text1: 0402  (hidden comment: 294K_R0402_1%)
Resistor Chip SMD; Manufacturer: Various; Part Number: 294K 0402 1%; Watt: 63mW; EDM-PN: RES1456; Package: RESC0402X40N; Text2: *; Reutech PN: *; SAAB PN: *; DCE Part No: *
footprint RESC0402X40N (Chip Resistor, 0402, 2-Leads, Body 1.1x0.5mm, IPC Medium Density)
pins: 1, 2

## 294K_0603
designator R?, comment value 294K  Tol: 1%  Text1: 0603  (hidden comment: 294K_R0603_1%)
Resistor Chip SMD; Manufacturer: Various; Part Number: 294K 0603 1%; Watt: 100mW; Package: RESC0603X60N; EDM-PN: *; Text2: *; Reutech PN: *; SAAB PN: *; DCE Part No: *
footprint RESC0603X60N (Chip Resistor, 0603, 2-Leads, Body 1.6x0.8mm, IPC Medium Density)
pins: 1, 2

## 294K_0805
designator R?, comment value 294K  Tol: 1%  Text1: 0805  (hidden comment: 294K_R0805_1%)
Resistor Chip SMD; Manufacturer: Various; Part Number: 294K 0805 1%; Watt: 125mW; Package: RESC0805X65N; EDM-PN: *; Text2: *; Reutech PN: *; SAAB PN: *; DCE Part No: *
footprint RESC0805X65N (Chip Resistor, 0805, 2-Leads, Body 2.0x1.3mm, IPC Medium Density)
pins: 1, 2

## 294R_0201
designator R?, comment value 294R  Tol: 1%  Text1: 0201  (hidden comment: 294R_R0201_1%)
Resistor Chip SMD; Manufacturer: Various; Part Number: 294R 0201 1%; Watt: 31mW; Package: RESC0201X33N; EDM-PN: *; Text2: *; Reutech PN: *; SAAB PN: *; DCE Part No: *
footprint RESC0201X33N (Chip Resistor, 0201, 2-Leads, Body 0.6x0.3mm, IPC Medium Density)
pins: 1, 2

## 294R_0402
designator R?, comment value 294R  Tol: 1%  Text1: 0402  (hidden comment: 294R_R0402_1%)
Resistor Chip SMD; Manufacturer: Various; Part Number: 294R 0402 1%; Watt: 63mW; Package: RESC0402X40N; EDM-PN: *; Text2: *; Reutech PN: *; SAAB PN: *; DCE Part No: *
footprint RESC0402X40N (Chip Resistor, 0402, 2-Leads, Body 1.1x0.5mm, IPC Medium Density)
pins: 1, 2

## 294R_0603
designator R?, comment value 294R  Tol: 1%  Text1: 0603  (hidden comment: 294R_R0603_1%)
Resistor Chip SMD; Manufacturer: Various; Part Number: 294R 0603 1%; Watt: 100mW; Package: RESC0603X60N; EDM-PN: *; Text2: *; Reutech PN: *; SAAB PN: *; DCE Part No: *
footprint RESC0603X60N (Chip Resistor, 0603, 2-Leads, Body 1.6x0.8mm, IPC Medium Density)
pins: 1, 2

## 294R_0805
designator R?, comment value 294R  Tol: 1%  Text1: 0805  (hidden comment: 294R_R0805_1%)
Resistor Chip SMD; Manufacturer: Various; Part Number: 294R 0805 1%; Watt: 125mW; Package: RESC0805X65N; EDM-PN: *; Text2: *; Reutech PN: *; SAAB PN: *; DCE Part No: *
footprint RESC0805X65N (Chip Resistor, 0805, 2-Leads, Body 2.0x1.3mm, IPC Medium Density)
pins: 1, 2

## 294R_1206
designator R?, comment value 294R  Tol: 1%  Text1: 1206  (hidden comment: 294R_R1206_1%)
Resistor Chip SMD; Manufacturer: Various; Part Number: 294R 1206 1%; Watt: 250mW; Package: RESC1206X71N; EDM-PN: *; Text2: *; Reutech PN: *; SAAB PN: *; DCE Part No: *
footprint RESC1206X71N (Chip Resistor, 1206, 2-Leads, Body 3.2x1.6mm, IPC Medium Density)
pins: 1, 2

## 300K_0201
designator R?, comment value 300K  Tol: 1%  Text1: 0201  (hidden comment: 300K_R0201_1%)
Resistor Chip SMD; Manufacturer: Various; Part Number: 300K 0201 1%; Watt: 31mW; Package: RESC0201X33N; EDM-PN: *; Text2: *; Reutech PN: *; SAAB PN: *; DCE Part No: *
footprint RESC0201X33N (Chip Resistor, 0201, 2-Leads, Body 0.6x0.3mm, IPC Medium Density)
pins: 1, 2

## 300K_0402
designator R?, comment value 300K  Tol: 1%  Text1: 0402  (hidden comment: 300K_R0402_1%)
Resistor Chip SMD; Manufacturer: Various; Part Number: 300K 0402 1%; Watt: 63mW; EDM-PN: RES890; Package: RESC0402X40N; Text2: *; Reutech PN: *; SAAB PN: *; DCE Part No: *
footprint RESC0402X40N (Chip Resistor, 0402, 2-Leads, Body 1.1x0.5mm, IPC Medium Density)
pins: 1, 2

## 300K_0603
designator R?, comment value 300K  Tol: 1%  Text1: 0603  (hidden comment: 300K_R0603_1%)
Resistor Chip SMD; Manufacturer: Various; Part Number: 300K 0603 1%; Watt: 100mW; Package: RESC0603X60N; EDM-PN: *; Text2: *; Reutech PN: *; SAAB PN: *; DCE Part No: *
footprint RESC0603X60N (Chip Resistor, 0603, 2-Leads, Body 1.6x0.8mm, IPC Medium Density)
pins: 1, 2

## 300K_0603-0.1%
designator R?, comment value 300K  Tol: 0.1%  Text1: 0603  (hidden comment: 300K_R0603_0.1%)
Resistor Chip SMD; Manufacturer: Various; Part Number: 300K 0603 0.1%; Watt: 100mW; Package: RESC0603X60N; EDM-PN: *; Text2: *; Reutech PN: *; SAAB PN: *; DCE Part No: *
footprint RESC0603X60N (Chip Resistor, 0603, 2-Leads, Body 1.6x0.8mm, IPC Medium Density)
pins: 1, 2

## 300K_0805
designator R?, comment value 300K  Tol: 1%  Text1: 0805  (hidden comment: 300K_R0805_1%)
Resistor Chip SMD; Manufacturer: Various; Part Number: 300K 0805 1%; Watt: 125mW; Package: RESC0805X65N; EDM-PN: *; Text2: *; Reutech PN: *; SAAB PN: *; DCE Part No: *
footprint RESC0805X65N (Chip Resistor, 0805, 2-Leads, Body 2.0x1.3mm, IPC Medium Density)
pins: 1, 2

## 300R_0201
designator R?, comment value 300R  Tol: 1%  Text1: 0201  (hidden comment: 300R_R0201_1%)
Resistor Chip SMD; Manufacturer: Various; Part Number: 300R 0201 1%; Watt: 31mW; Package: RESC0201X33N; EDM-PN: *; Text2: *; Reutech PN: *; SAAB PN: *; DCE Part No: *
footprint RESC0201X33N (Chip Resistor, 0201, 2-Leads, Body 0.6x0.3mm, IPC Medium Density)
pins: 1, 2

## 300R_0402
designator R?, comment value 300R  Tol: 1%  Text1: 0402  (hidden comment: 300R_R0402_1%)
Resistor Chip SMD; Manufacturer: Various; Part Number: 300R 0402 1%; Watt: 63mW; Package: RESC0402X40N; EDM-PN: *; Text2: *; Reutech PN: *; SAAB PN: *; DCE Part No: *
footprint RESC0402X40N (Chip Resistor, 0402, 2-Leads, Body 1.1x0.5mm, IPC Medium Density)
pins: 1, 2

## 300R_0402-0.1%
designator R?, comment value 300R  Tol: 0.1%  Text1: 0402  (hidden comment: 300R_R0402_0.1%)
Resistor Chip SMD; Manufacturer: Various; Part Number: 300R 0402 0.1%; Watt: 63mW; Package: RESC0402X40N; EDM-PN: *; Text2: *; Reutech PN: *; SAAB PN: *; DCE Part No: *
footprint RESC0402X40N (Chip Resistor, 0402, 2-Leads, Body 1.1x0.5mm, IPC Medium Density)
pins: 1, 2

## 300R_0603
designator R?, comment value 300R  Tol: 1%  Text1: 0603  (hidden comment: 300R_R0603_1%)
Resistor Chip SMD; Manufacturer: Various; Part Number: 300R 0603 1%; Watt: 100mW; EDM-PN: RES1276; Package: RESC0603X60N; Text2: *; Reutech PN: 5905-93-300; SAAB PN: *; DCE Part No: *
footprint RESC0603X60N (Chip Resistor, 0603, 2-Leads, Body 1.6x0.8mm, IPC Medium Density)
pins: 1, 2

## 300R_0805
designator R?, comment value 300R  Tol: 1%  Text1: 0805  (hidden comment: 300R_R0805_1%)
Resistor Chip SMD; Manufacturer: Various; Part Number: 300RK 0805 1%; Watt: 125mW; Package: RESC0805X65N; EDM-PN: *; Text2: *; Reutech PN: *; SAAB PN: *; DCE Part No: *
footprint RESC0805X65N (Chip Resistor, 0805, 2-Leads, Body 2.0x1.3mm, IPC Medium Density)
pins: 1, 2

## 301K_0201
designator R?, comment value 301K  Tol: 1%  Text1: 0201  (hidden comment: 301K_R0201_1%)
Resistor Chip SMD; Manufacturer: Various; Part Number: 301K 0201 1%; Watt: 31mW; Package: RESC0201X33N; EDM-PN: *; Text2: *; Reutech PN: *; SAAB PN: *; DCE Part No: *
footprint RESC0201X33N (Chip Resistor, 0201, 2-Leads, Body 0.6x0.3mm, IPC Medium Density)
pins: 1, 2

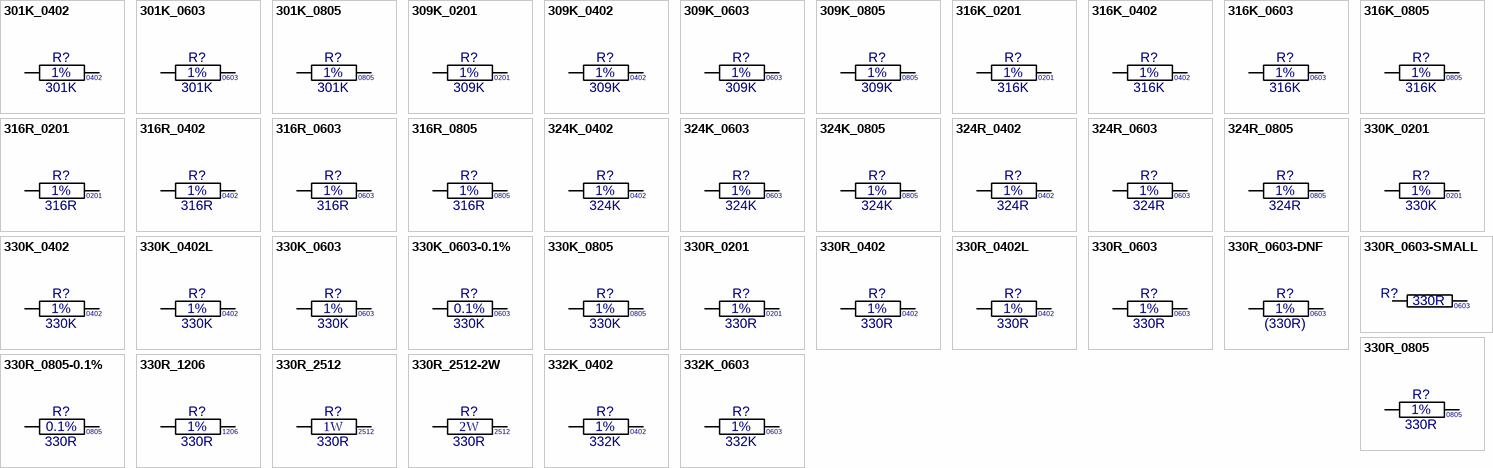
[diagram p49: symbols 301K_0402 to 332K_0603]

## 301K_0402
designator R?, comment value 301K  Tol: 1%  Text1: 0402  (hidden comment: 301K_R0402_1%)
Resistor Chip SMD; Manufacturer: Various; Part Number: 301K 0402 1%; Watt: 63mW; Package: RESC0402X40N; EDM-PN: *; Text2: *; Reutech PN: *; SAAB PN: *; DCE Part No: *
footprint RESC0402X40N (Chip Resistor, 0402, 2-Leads, Body 1.1x0.5mm, IPC Medium Density)
pins: 1, 2

## 301K_0603
designator R?, comment value 301K  Tol: 1%  Text1: 0603  (hidden comment: 301K_R0603_1%)
Resistor Chip SMD; Manufacturer: Various; Part Number: 301K 0603 1%; Watt: 100mW; Package: RESC0603X60N; EDM-PN: *; Text2: *; Reutech PN: *; SAAB PN: *; DCE Part No: *
footprint RESC0603X60N (Chip Resistor, 0603, 2-Leads, Body 1.6x0.8mm, IPC Medium Density)
pins: 1, 2

## 301K_0805
designator R?, comment value 301K  Tol: 1%  Text1: 0805  (hidden comment: 301K_R0805_1%)
Resistor Chip SMD; Manufacturer: Various; Part Number: 301K 0805 1%; Watt: 125mW; Package: RESC0805X65N; EDM-PN: *; Text2: *; Reutech PN: *; SAAB PN: *; DCE Part No: *
footprint RESC0805X65N (Chip Resistor, 0805, 2-Leads, Body 2.0x1.3mm, IPC Medium Density)
pins: 1, 2

## 309K_0201
designator R?, comment value 309K  Tol: 1%  Text1: 0201  (hidden comment: 309K_R0201_1%)
Resistor Chip SMD; Manufacturer: Various; Part Number: 309K 0201 1%; Watt: 31mW; Package: RESC0201X33N; EDM-PN: *; Text2: *; Reutech PN: *; SAAB PN: *; DCE Part No: *
footprint RESC0201X33N (Chip Resistor, 0201, 2-Leads, Body 0.6x0.3mm, IPC Medium Density)
pins: 1, 2

## 309K_0402
designator R?, comment value 309K  Tol: 1%  Text1: 0402  (hidden comment: 309K_R0402_1%)
Resistor Chip SMD; Manufacturer: Various; Part Number: 309K 0402 1%; Watt: 63mW; Package: RESC0402X40N; EDM-PN: *; Text2: *; Reutech PN: *; SAAB PN: *; DCE Part No: *
footprint RESC0402X40N (Chip Resistor, 0402, 2-Leads, Body 1.1x0.5mm, IPC Medium Density)
pins: 1, 2

## 309K_0603
designator R?, comment value 309K  Tol: 1%  Text1: 0603  (hidden comment: 309K_R0603_1%)
Resistor Chip SMD; Manufacturer: Various; Part Number: 309K 0603 1%; Watt: 100mW; Package: RESC0603X60N; EDM-PN: *; Text2: *; Reutech PN: *; SAAB PN: *; DCE Part No: *
footprint RESC0603X60N (Chip Resistor, 0603, 2-Leads, Body 1.6x0.8mm, IPC Medium Density)
pins: 1, 2

## 309K_0805
designator R?, comment value 309K  Tol: 1%  Text1: 0805  (hidden comment: 309K_R0805_1%)
Resistor Chip SMD; Manufacturer: Various; Part Number: 309K 0805 1%; Watt: 125mW; Package: RESC0805X65N; EDM-PN: *; Text2: *; Reutech PN: *; SAAB PN: *; DCE Part No: *
footprint RESC0805X65N (Chip Resistor, 0805, 2-Leads, Body 2.0x1.3mm, IPC Medium Density)
pins: 1, 2

## 316K_0201
designator R?, comment value 316K  Tol: 1%  Text1: 0201  (hidden comment: 316K_R0201_1%)
Resistor Chip SMD; Manufacturer: Various; Part Number: 316K 0201 1%; Watt: 31mW; Package: RESC0201X33N; EDM-PN: *; Text2: *; Reutech PN: *; SAAB PN: *; DCE Part No: *
footprint RESC0201X33N (Chip Resistor, 0201, 2-Leads, Body 0.6x0.3mm, IPC Medium Density)
pins: 1, 2

## 316K_0402
designator R?, comment value 316K  Tol: 1%  Text1: 0402  (hidden comment: 316K_R0402_1%)
Resistor Chip SMD; Manufacturer: Various; Part Number: 316K 0402 1%; Watt: 63mW; Package: RESC0402X40N; EDM-PN: *; Text2: *; Reutech PN: *; SAAB PN: *; DCE Part No: *
footprint RESC0402X40N (Chip Resistor, 0402, 2-Leads, Body 1.1x0.5mm, IPC Medium Density)
pins: 1, 2

## 316K_0603
designator R?, comment value 316K  Tol: 1%  Text1: 0603  (hidden comment: 316K_R0603_1%)
Resistor Chip SMD; Manufacturer: Various; Part Number: 316K 0603 1%; Watt: 100mW; Package: RESC0603X60N; EDM-PN: *; Text2: *; Reutech PN: *; SAAB PN: *; DCE Part No: *
footprint RESC0603X60N (Chip Resistor, 0603, 2-Leads, Body 1.6x0.8mm, IPC Medium Density)
pins: 1, 2

## 316K_0805
designator R?, comment value 316K  Tol: 1%  Text1: 0805  (hidden comment: 316K_R0805_1%)
Resistor Chip SMD; Manufacturer: Various; Part Number: 316K 0805 1%; Watt: 125mW; Package: RESC0805X65N; EDM-PN: *; Text2: *; Reutech PN: *; SAAB PN: *; DCE Part No: *
footprint RESC0805X65N (Chip Resistor, 0805, 2-Leads, Body 2.0x1.3mm, IPC Medium Density)
pins: 1, 2

## 316R_0201
designator R?, comment value 316R  Tol: 1%  Text1: 0201  (hidden comment: 316R_R0201_1%)
Resistor Chip SMD; Manufacturer: Various; Part Number: 316R 0201 1%; Watt: 31mW; Package: RESC0201X33N; EDM-PN: *; Text2: *; Reutech PN: *; SAAB PN: *; DCE Part No: *
footprint RESC0201X33N (Chip Resistor, 0201, 2-Leads, Body 0.6x0.3mm, IPC Medium Density)
pins: 1, 2

## 316R_0402
designator R?, comment value 316R  Tol: 1%  Text1: 0402  (hidden comment: 316R_R0402_1%)
Resistor Chip SMD; Manufacturer: Various; Part Number: 316R 0402 1%; Watt: 63mW; Package: RESC0402X40N; EDM-PN: *; Text2: *; Reutech PN: *; SAAB PN: *; DCE Part No: *
footprint RESC0402X40N (Chip Resistor, 0402, 2-Leads, Body 1.1x0.5mm, IPC Medium Density)
pins: 1, 2

## 316R_0603
designator R?, comment value 316R  Tol: 1%  Text1: 0603  (hidden comment: 316R_R0603_1%)
Resistor Chip SMD; Manufacturer: Various; Part Number: 316R 0603 1%; Watt: 100mW; Package: RESC0603X60N; EDM-PN: *; Text2: *; Reutech PN: *; SAAB PN: *; DCE Part No: *
footprint RESC0603X60N (Chip Resistor, 0603, 2-Leads, Body 1.6x0.8mm, IPC Medium Density)
pins: 1, 2

## 316R_0805
designator R?, comment value 316R  Tol: 1%  Text1: 0805  (hidden comment: 316R_R0805_1%)
Resistor Chip SMD; Manufacturer: Various; Part Number: 316R 0805 1%; Watt: 125mW; Package: RESC0805X65N; EDM-PN: *; Text2: *; Reutech PN: *; SAAB PN: *; DCE Part No: *
footprint RESC0805X65N (Chip Resistor, 0805, 2-Leads, Body 2.0x1.3mm, IPC Medium Density)
pins: 1, 2

## 324K_0402
designator R?, comment value 324K  Tol: 1%  Text1: 0402  (hidden comment: 324K_R0402_1%)
Resistor Chip SMD; Manufacturer: Various; Part Number: 324K 0402 1%; Watt: 63mW; Package: RESC0402X40N; EDM-PN: *; Text2: *; Reutech PN: *; SAAB PN: *; DCE Part No: *
footprint RESC0402X40N (Chip Resistor, 0402, 2-Leads, Body 1.1x0.5mm, IPC Medium Density)
pins: 1, 2

## 324K_0603
designator R?, comment value 324K  Tol: 1%  Text1: 0603  (hidden comment: 324K_R0603_1%)
Resistor Chip SMD; Manufacturer: Various; Part Number: 324K 0603 1%; Watt: 100mW; Package: RESC0603X60N; EDM-PN: *; Text2: *; Reutech PN: *; SAAB PN: *; DCE Part No: *
footprint RESC0603X60N (Chip Resistor, 0603, 2-Leads, Body 1.6x0.8mm, IPC Medium Density)
pins: 1, 2

## 324K_0805
designator R?, comment value 324K  Tol: 1%  Text1: 0805  (hidden comment: 324K_R0805_1%)
Resistor Chip SMD; Manufacturer: Various; Part Number: 324K 0805 1%; Watt: 125mW; Package: RESC0805X65N; EDM-PN: *; Text2: *; Reutech PN: *; SAAB PN: *; DCE Part No: *
footprint RESC0805X65N (Chip Resistor, 0805, 2-Leads, Body 2.0x1.3mm, IPC Medium Density)
pins: 1, 2

## 324R_0402
designator R?, comment value 324R  Tol: 1%  Text1: 0402  (hidden comment: 324R_R0402_1%)
Resistor Chip SMD; Manufacturer: Various; Part Number: 324R 0402 1%; Watt: 63mW; Package: RESC0402X40N; EDM-PN: *; Text2: *; Reutech PN: *; SAAB PN: *; DCE Part No: *
footprint RESC0402X40N (Chip Resistor, 0402, 2-Leads, Body 1.1x0.5mm, IPC Medium Density)
pins: 1, 2

## 324R_0603
designator R?, comment value 324R  Tol: 1%  Text1: 0603  (hidden comment: 324R_R0603_1%)
Resistor Chip SMD; Manufacturer: Various; Part Number: 324R 0603 1%; Watt: 100mW; Package: RESC0603X60N; EDM-PN: *; Text2: *; Reutech PN: *; SAAB PN: *; DCE Part No: *
footprint RESC0603X60N (Chip Resistor, 0603, 2-Leads, Body 1.6x0.8mm, IPC Medium Density)
pins: 1, 2

## 324R_0805
designator R?, comment value 324R  Tol: 1%  Text1: 0805  (hidden comment: 324R_R0805_1%)
Resistor Chip SMD; Manufacturer: Various; Part Number: 324R 0805 1%; Watt: 125mW; Package: RESC0805X65N; EDM-PN: *; Text2: *; Reutech PN: *; SAAB PN: *; DCE Part No: *
footprint RESC0805X65N (Chip Resistor, 0805, 2-Leads, Body 2.0x1.3mm, IPC Medium Density)
pins: 1, 2

## 330K_0201
designator R?, comment value 330K  Tol: 1%  Text1: 0201  (hidden comment: 330K_R0201_1%)
Resistor Chip SMD; Manufacturer: Various; Part Number: 330K 0201 1%; Watt: 31mW; Package: RESC0201X33N; EDM-PN: *; Text2: *; Reutech PN: *; SAAB PN: *; DCE Part No: *
footprint RESC0201X33N (Chip Resistor, 0201, 2-Leads, Body 0.6x0.3mm, IPC Medium Density)
pins: 1, 2

## 330K_0402
designator R?, comment value 330K  Tol: 1%  Text1: 0402  (hidden comment: 330K_R0402_1%)
Resistor Chip SMD; Manufacturer: Various; Part Number: 330K 0402 1%; DCE Part No: 7150; Watt: 63mW; Package: RESC0402X40N; EDM-PN: *; Text2: *; Reutech PN: *; SAAB PN: *
footprint RESC0402X40N (Chip Resistor, 0402, 2-Leads, Body 1.1x0.5mm, IPC Medium Density)
pins: 1, 2

## 330K_0402L
designator R?, comment value 330K  Tol: 1%  Text1: 0402  (hidden comment: 330K_R0402_1%)
Resistor Chip SMD; Manufacturer: Various; Part Number: 330K 0402 1%; DCE Part No: 7150; Watt: 63mW; Package: RESC0402X40L; EDM-PN: *; Text2: *; Reutech PN: *; SAAB PN: *
footprint RESC0402X40L (Chip Resistor, 0402, 2-Leads, Body 1.1x0.5mm, IPC High Density)
pins: 1, 2

## 330K_0603
designator R?, comment value 330K  Tol: 1%  Text1: 0603  (hidden comment: 330K_R0603_1%)
Resistor Chip SMD; Manufacturer: Various; Part Number: 330K 0603 1%; Watt: 100mW; Package: RESC0603X60N; EDM-PN: *; Text2: *; Reutech PN: *; SAAB PN: *; DCE Part No: *
footprint RESC0603X60N (Chip Resistor, 0603, 2-Leads, Body 1.6x0.8mm, IPC Medium Density)
pins: 1, 2

## 330K_0603-0.1%
designator R?, comment value 330K  Tol: 0.1%  Text1: 0603  (hidden comment: 330K_R0603_0.1%)
Resistor Chip SMD; Manufacturer: Various; Part Number: 330K 0603 0.1%; Watt: 100mW; Package: RESC0603X60N; EDM-PN: *; Text2: *; Reutech PN: *; SAAB PN: *; DCE Part No: *
footprint RESC0603X60N (Chip Resistor, 0603, 2-Leads, Body 1.6x0.8mm, IPC Medium Density)
pins: 1, 2

## 330K_0805
designator R?, comment value 330K  Tol: 1%  Text1: 0805  (hidden comment: 330K_R0805_1%)
Resistor Chip SMD; Manufacturer: Various; Part Number: 330K 0805 1%; Watt: 125mW; EDM-PN: RES99; Package: RESC0805X65N; Text2: *; Reutech PN: *; SAAB PN: *; DCE Part No: *
footprint RESC0805X65N (Chip Resistor, 0805, 2-Leads, Body 2.0x1.3mm, IPC Medium Density)
pins: 1, 2

## 330R_0201
designator R?, comment value 330R  Tol: 1%  Text1: 0201  (hidden comment: 330R_R0201_1%)
Resistor Chip SMD; Manufacturer: Various; Part Number: 330R 0201 1%; Watt: 31mW; Package: RESC0201X33N; EDM-PN: *; Text2: *; Reutech PN: *; SAAB PN: *; DCE Part No: *
footprint RESC0201X33N (Chip Resistor, 0201, 2-Leads, Body 0.6x0.3mm, IPC Medium Density)
pins: 1, 2

## 330R_0402
designator R?, comment value 330R  Tol: 1%  Text1: 0402  (hidden comment: 330R_R0402_1%)
Resistor Chip SMD; Manufacturer: Various; Part Number: 330R 0402 1%; Watt: 63mW; Package: RESC0402X40N; EDM-PN: *; Text2: *; Reutech PN: *; SAAB PN: *; DCE Part No: *
footprint RESC0402X40N (Chip Resistor, 0402, 2-Leads, Body 1.1x0.5mm, IPC Medium Density)
pins: 1, 2

## 330R_0402L
designator R?, comment value 330R  Tol: 1%  Text1: 0402  (hidden comment: 330R_R0402_1%)
Resistor Chip SMD; Manufacturer: Various; Part Number: 330R 0402 1%; Watt: 63mW; Package: RESC0402X40L; EDM-PN: *; Text2: *; Reutech PN: *; SAAB PN: *; DCE Part No: *
footprint RESC0402X40L (Chip Resistor, 0402, 2-Leads, Body 1.1x0.5mm, IPC High Density)
pins: 1, 2

## 330R_0603
designator R?, comment value 330R  Tol: 1%  Text1: 0603  (hidden comment: 330R_R0603_1%)
Resistor Chip SMD; Manufacturer: Various; Part Number: 330R 0603 1%; Watt: 100mW; EDM-PN: RES124; Package: RESC0603X60N; Text2: *; Reutech PN: 5905-93-3300; SAAB PN: *; DCE Part No: *
footprint RESC0603X60N (Chip Resistor, 0603, 2-Leads, Body 1.6x0.8mm, IPC Medium Density)
pins: 1, 2

## 330R_0603-DNF
designator R?, comment value (330R)  Tol: 1%  Text1: 0603  (hidden comment: 330R_R0603_1%)
Resistor Chip SMD - Do not Fit; Manufacturer: Various; Part Number: DNF - 330R 0603 1%; Watt: 100mW; Package: RESC0603X60N; EDM-PN: *; Text2: *; Reutech PN: 5905-93-3300; SAAB PN: *; DCE Part No: *
footprint RESC0603X60N (Chip Resistor, 0603, 2-Leads, Body 1.6x0.8mm, IPC Medium Density)
pins: 1, 2

## 330R_0603-SMALL
designator R?, comment value 330R  Text1: 0603  (hidden comment: 330R_R0603_1%)
Resistor Chip SMD; Manufacturer: Various; Part Number: 330R 0603 1%; Watt: 100mW; Tol: 1%; Package: RESC0603X60N; EDM-PN: *; Text2: *; Reutech PN: *; SAAB PN: *; DCE Part No: *
footprint RESC0603X60N (Chip Resistor, 0603, 2-Leads, Body 1.6x0.8mm, IPC Medium Density)
pins: 1, 2

## 330R_0805
designator R?, comment value 330R  Tol: 1%  Text1: 0805  (hidden comment: 330R_R0805_1%)
Resistor Chip SMD; Manufacturer: Various; Part Number: 330R 0805 1%; Watt: 125mW; Package: RESC0805X65N; EDM-PN: *; Text2: *; Reutech PN: *; SAAB PN: *; DCE Part No: *
footprint RESC0805X65N (Chip Resistor, 0805, 2-Leads, Body 2.0x1.3mm, IPC Medium Density)
pins: 1, 2

## 330R_0805-0.1%
designator R?, comment value 330R  Tol: 0.1%  Text1: 0805  (hidden comment: 330R_R0805_0.1%)
Resistor Chip SMD; Manufacturer: Various; Part Number: 330R 0805 0.1%; Watt: 125mW; Package: RESC0805X65N; EDM-PN: *; Text2: *; Reutech PN: *; SAAB PN: *; DCE Part No: *
footprint RESC0805X65N (Chip Resistor, 0805, 2-Leads, Body 2.0x1.3mm, IPC Medium Density)
pins: 1, 2

## 330R_1206
designator R?, comment value 330R  Tol: 1%  Text1: 1206  (hidden comment: 330R_R1206_1%)
Resistor Chip SMD; Manufacturer: Various; Part Number: 330R 1206 1%; Watt: 250mW; Package: RESC1206X71N; EDM-PN: *; Text2: *; Reutech PN: *; SAAB PN: *; DCE Part No: *
footprint RESC1206X71N (Chip Resistor, 1206, 2-Leads, Body 3.2x1.6mm, IPC Medium Density)
pins: 1, 2

## 330R_2512
designator R?, comment value 330R  Watt: 1W  Text1: 2512  (hidden comment: 330R_R2512_1%)
Resistor Chip SMD; Manufacturer: Various; Part Number: 330R 2512 1%; Tol: 1%; Package: RESC2512X71N; EDM-PN: *; Text2: *; Reutech PN: *; SAAB PN: *; DCE Part No: *
footprint RESC2512X71N (Chip Resistor, 2512, 2-Leads, Body 6.3x3.2mm, IPC Medium Density)
pins: 1, 2

## 330R_2512-2W
designator R?, comment value 330R  Watt: 2W  Text1: 2512  (hidden comment: 330R_R2512_1%-2W)
Resistor Thick Film; Manufacturer: Various; Part Number: 330R 2512 1% 2W; Tol: 1%; Package: RESC2512X71N; EDM-PN: *; Text2: *; Reutech PN: *; SAAB PN: *; DCE Part No: *
footprint RESC2512X71N (Chip Resistor, 2512, 2-Leads, Body 6.3x3.2mm, IPC Medium Density)
pins: 1, 2

## 332K_0402
designator R?, comment value 332K  Tol: 1%  Text1: 0402  (hidden comment: 332K_R0402_1%)
Resistor Chip SMD; Manufacturer: Various; Part Number: 332K 0402 1%; Watt: 63mW; Package: RESC0402X40N; EDM-PN: *; Text2: *; Reutech PN: *; SAAB PN: *; DCE Part No: *
footprint RESC0402X40N (Chip Resistor, 0402, 2-Leads, Body 1.1x0.5mm, IPC Medium Density)
pins: 1, 2

## 332K_0603
designator R?, comment value 332K  Tol: 1%  Text1: 0603  (hidden comment: 332K_R0603_1%)
Resistor Chip SMD; Manufacturer: Various; Part Number: 332K 0603 1%; Watt: 100mW; Package: RESC0603X60N; EDM-PN: *; Text2: *; Reutech PN: *; SAAB PN: *; DCE Part No: *
footprint RESC0603X60N (Chip Resistor, 0603, 2-Leads, Body 1.6x0.8mm, IPC Medium Density)
pins: 1, 2

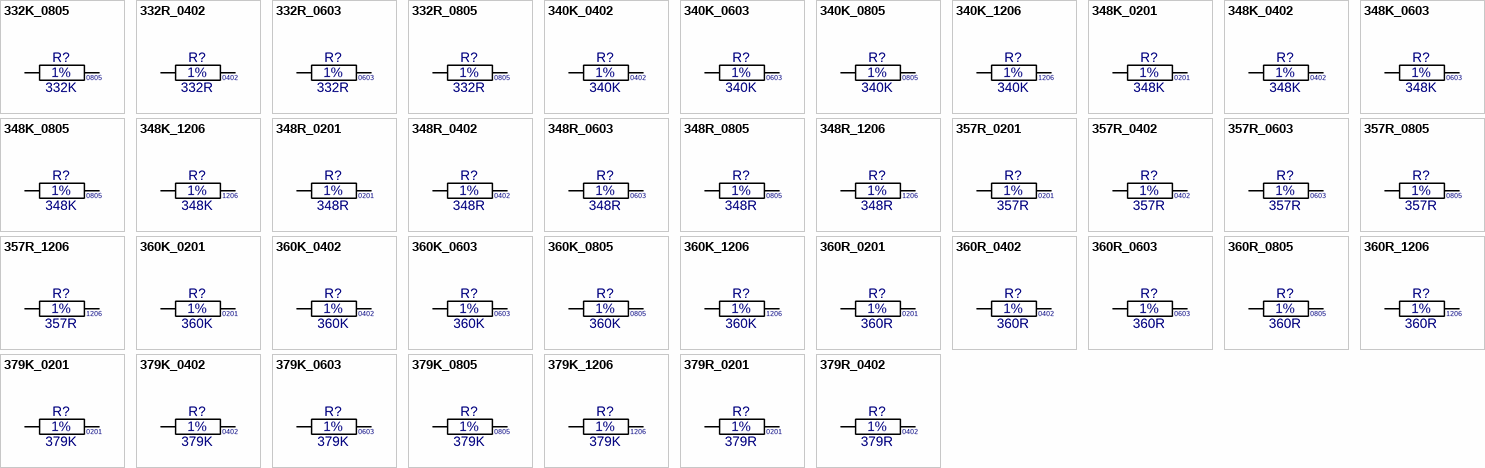
[diagram p50: symbols 332K_0805 to 379R_0402]

## 332K_0805
designator R?, comment value 332K  Tol: 1%  Text1: 0805  (hidden comment: 332K_R0805_1%)
Resistor Chip SMD; Manufacturer: Various; Part Number: 332K 0805 1%; Watt: 125mW; Package: RESC0805X65N; EDM-PN: *; Text2: *; Reutech PN: *; SAAB PN: *; DCE Part No: *
footprint RESC0805X65N (Chip Resistor, 0805, 2-Leads, Body 2.0x1.3mm, IPC Medium Density)
pins: 1, 2

## 332R_0402
designator R?, comment value 332R  Tol: 1%  Text1: 0402  (hidden comment: 332R_R0402_1%)
Resistor Chip SMD; Manufacturer: Various; Part Number: 332R 0402 1%; Watt: 63mW; Package: RESC0402X40N; EDM-PN: *; Text2: *; Reutech PN: *; SAAB PN: *; DCE Part No: *
footprint RESC0402X40N (Chip Resistor, 0402, 2-Leads, Body 1.1x0.5mm, IPC Medium Density)
pins: 1, 2

## 332R_0603
designator R?, comment value 332R  Tol: 1%  Text1: 0603  (hidden comment: 332R_R0603_1%)
Resistor Chip SMD; Manufacturer: Various; Part Number: 332R 0603 1%; Watt: 100mW; Package: RESC0603X60N; EDM-PN: *; Text2: *; Reutech PN: *; SAAB PN: *; DCE Part No: *
footprint RESC0603X60N (Chip Resistor, 0603, 2-Leads, Body 1.6x0.8mm, IPC Medium Density)
pins: 1, 2

## 332R_0805
designator R?, comment value 332R  Tol: 1%  Text1: 0805  (hidden comment: 332R_R0805_1%)
Resistor Chip SMD; Manufacturer: Various; Part Number: 332R 0805 1%; Watt: 125mW; Package: RESC0805X65N; EDM-PN: *; Text2: *; Reutech PN: *; SAAB PN: *; DCE Part No: *
footprint RESC0805X65N (Chip Resistor, 0805, 2-Leads, Body 2.0x1.3mm, IPC Medium Density)
pins: 1, 2

## 340K_0402
designator R?, comment value 340K  Tol: 1%  Text1: 0402  (hidden comment: 340K_R0402_1%)
Resistor Chip SMD; Manufacturer: Various; Part Number: 340K 0402 1%; Watt: 63mW; Package: RESC0402X40N; EDM-PN: *; Text2: *; Reutech PN: *; SAAB PN: *; DCE Part No: *
footprint RESC0402X40N (Chip Resistor, 0402, 2-Leads, Body 1.1x0.5mm, IPC Medium Density)
pins: 1, 2

## 340K_0603
designator R?, comment value 340K  Tol: 1%  Text1: 0603  (hidden comment: 340K_R0603_1%)
Resistor Chip SMD; Manufacturer: Various; Part Number: 340K 0603 1%; Watt: 100mW; Package: RESC0603X60N; EDM-PN: *; Text2: *; Reutech PN: *; SAAB PN: *; DCE Part No: *
footprint RESC0603X60N (Chip Resistor, 0603, 2-Leads, Body 1.6x0.8mm, IPC Medium Density)
pins: 1, 2